# Altium integrated library Molex Pico SPOX 7 POS RA.IntLib: 1 symbol
Pins are listed as number, name and electrical type; pins without a type are passive.

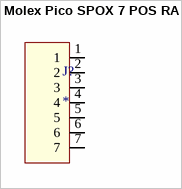
[diagram p0: symbol Molex Pico SPOX 7 POS RA]

## Molex Pico SPOX 7 POS RA
designator J?
CONN HEADER SMD R/A 7POS 1.5MM / Manufacturer PN: 0874380743
footprint Molex Pico SPOX 7 POS RA
pins: 1, 2, 3, 4, 5, 6, 7